# Altium footprint library 1731070255.PcbLib: 1 footprints
Each footprint in its own frame and in the unit in brackets; x right, y up, seen from the top. Pads: shape width x height; smd on the part's side, far side on the other; paste and mask are expansions set on the pad; w line width, h text height; cw(c..) or ccw(c..) is an arc to the next point about the centre after c.
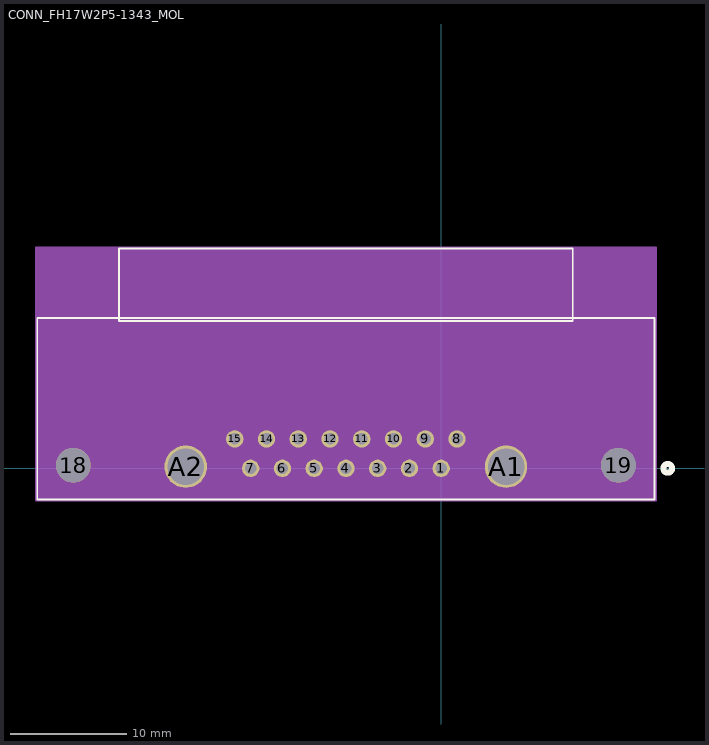
[diagram p0: the footprint, top view; thin cyan lines are the x and y axes]

## CONN_FH17W2P5-1343_MOL [mil]
pads (19):
  round 59 hole 39 paste-29.5 mask+0: 1(0,0) 2(-107.87,0) 3(-215.75,0) 4(-323.62,0) 5(-431.5,0) 6(-539.37,0) 7(-647.24,0) 8(53.94,100) 9(-53.94,100) 10(-161.81,100) 11(-269.69,100) 12(-377.56,100) 13(-485.43,100) 14(-593.31,100) 15(-701.18,100)
  round 118 hole 118 unplated paste+0 mask+0: 18(-1249.61,10.63) 19(602.36,10.63)
  round 144 hole 124 paste-72 mask+0: A1(220.47,5.51) A2(-867.72,5.51)
Top Overlay:
  circle w20: c769.88,0 r15
  lines w6: -1372.12,-105.49 724.88,-105.49 724.88,510.51 -1372.12,510.51 -1372.12,-105.49 ; -1094.62,500.51 447.38,500.51 447.38,746.51 -1094.62,746.51 -1094.62,500.51
  text ".Designator" at -461.12,177.51 h50
Bottom Overlay:
  circle w20: c769.88,0 r15
Mechanical 13:
  circle w20: c0,0 r15
  lines w1: -1367.12,-100.49 719.88,-100.49 719.88,505.51 -1367.12,505.51 -1367.12,-100.49 ; -1089.62,505.51 442.38,505.51 442.38,741.51 -1089.62,741.51 -1089.62,505.51
  text ".Designator" at -461.12,177.51 h50
Mechanical 15:
  region: 729.88,-110.49 729.88,751.51 -1377.12,751.51 -1377.12,-110.49
  lines w6: -1377.12,-110.49 -1377.12,751.51 729.88,751.51 729.88,-110.49 -1377.12,-110.49